# EAGLE library part STN1170 (library X893)
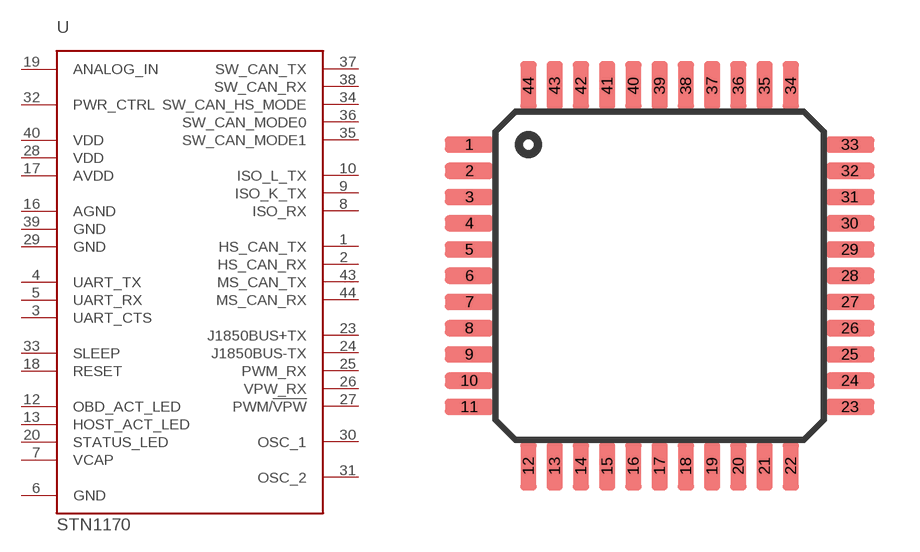
[diagram p223: symbol with the pads of TQFP44; footprint TQFP44]

Designator prefix U

## STN1170  [TQFP44]
1  HS_CAN_TX  out
2  HS_CAN_RX  in
3  UART_CTS  in
4  UART_TX  out
5  UART_RX  in
6  GND  pwr
7  VCAP  pas
8  ISO_RX  in
9  ISO_K_TX  out
10  ISO_L_TX  out
12  OBD_ACT_LED  out
13  HOST_ACT_LED  out
16  AGND  pas
17  AVDD  pas
18  RESET  in
19  ANALOG_IN  pas
20  STATUS_LED  out
23  J1850BUS+TX  out
24  J1850BUS-TX  out
25  PWM_RX  in
26  VPW_RX  in
27  PWM/!VPW  out
28  VDD  pwr
29  GND  pwr
30  OSC_1  pas
31  OSC_2  pas
32  PWR_CTRL  out
33  SLEEP  in
34  SW_CAN_HS_MODE  out
35  SW_CAN_MODE1  out
36  SW_CAN_MODE0  out
37  SW_CAN_TX  out
38  SW_CAN_RX  in
39  GND  pwr
40  VDD  pwr
43  MS_CAN_TX  out
44  MS_CAN_RX  in

## Footprint TQFP44 (pad centres in mm)
Thin Plasic Quad Flat Package
smd 1.5 x 0.5: 1 -5.8,4; 2 -5.8,3.2; 3 -5.8,2.4; 4 -5.8,1.6; 5 -5.8,0.8; 6 -5.8,0; 7 -5.8,-0.8; 8 -5.8,-1.6; 9 -5.8,-2.4; 10 -5.8,-3.2; 11 -5.8,-4; 23 5.8,-4; 24 5.8,-3.2; 25 5.8,-2.4; 26 5.8,-1.6; 27 5.8,-0.8; 28 5.8,0; 29 5.8,0.8; 30 5.8,1.6; 31 5.8,2.4; 32 5.8,3.2; 33 5.8,4
smd 0.5 x 1.5: 12 -4,-5.8; 13 -3.2,-5.8; 14 -2.4,-5.8; 15 -1.6,-5.8; 16 -0.8,-5.8; 17 0,-5.8; 18 0.8,-5.8; 19 1.6,-5.8; 20 2.4,-5.8; 21 3.2,-5.8; 22 4,-5.8; 34 4,5.8; 35 3.2,5.8; 36 2.4,5.8; 37 1.6,5.8; 38 0.8,5.8; 39 0,5.8; 40 -0.8,5.8; 41 -1.6,5.8; 42 -2.4,5.8; 43 -3.2,5.8; 44 -4,5.8